# Altium schematic symbol library SkinnyPushButton.SchLib: 1 symbol
Pins are listed as number, name and electrical type; pins without a type are passive.

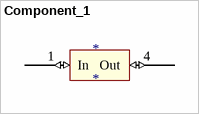
[diagram p0: symbol Component_1]

## Component_1
designator *
footprint Button (SMD Female Header for Pushbutton)
pins: 1 In (io), 4 Out (io)